# Altium footprint library con-phoenix-762.PCBLIB: 27 footprints (part 2 of 2)
Each footprint in its own frame and in the unit in brackets; x right, y up, seen from the top. Pads: shape width x height; smd on the part's side, far side on the other; paste and mask are expansions set on the pad; w line width, h text height; cw(c..) or ccw(c..) is an arc to the next point about the centre after c.
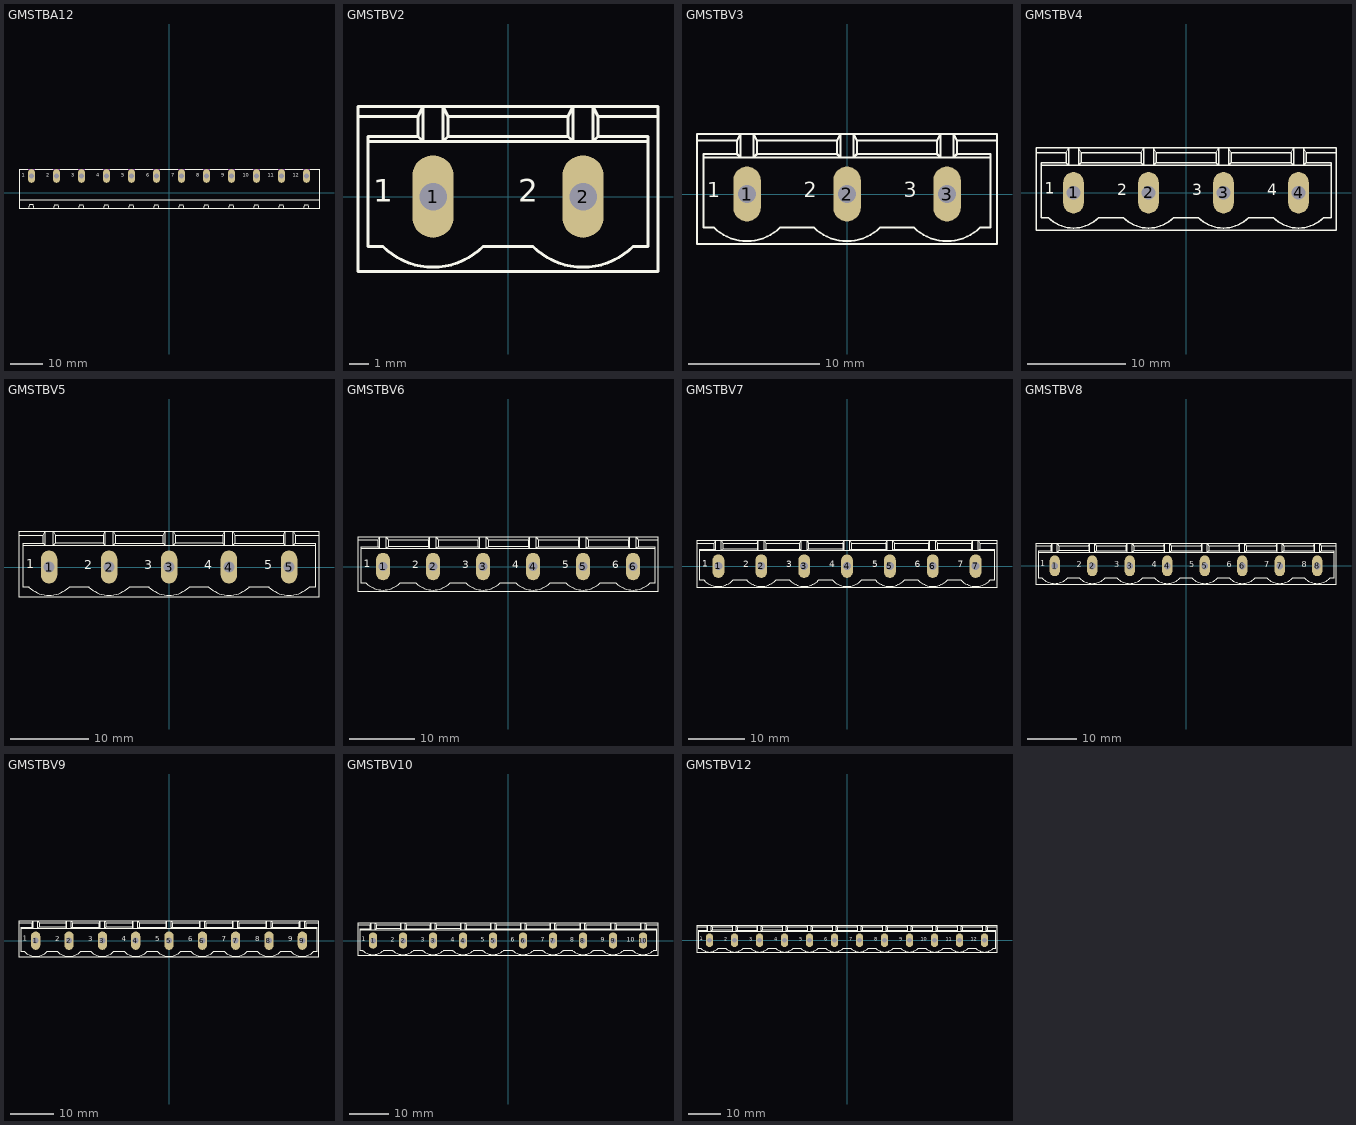
[diagram p1: the footprints below, top view; thin cyan lines are the x and y axes]

## GMSTBA12 [mil]
pads (12):
  oval 82.5x165 hole 55: 1(-1650,200) 2(-1350,200) 3(-1050,200) 4(-750,200) 5(-450,200) 6(-150,200) 7(150,200) 8(450,200) 9(750,200) 10(1050,200) 11(1350,200) 12(1650,200)
Top Overlay:
  lines w6: -1695,280 -1800,280 -1800,-85 ; -1685,-195 -1670,-145 -1630,-145 -1615,-195 ; -1605,280 -1395,280 ; -1385,-195 -1370,-145 -1330,-145 -1315,-195 ; -1305,280 -1095,280 ; -1085,-195 -1070,-145 -1030,-145 -1015,-195 ; -1005,280 -795,280 ; -705,280 -495,280 ; -405,280 -195,280 ; -105,280 105,280 ; 195,280 405,280 ; 495,280 705,280 ; 795,280 1005,280 ; 1095,280 1305,280 ; 1395,280 1605,280 ; 1695,280 1800,280 1800,-85 ; -1800,-85 1800,-85 ; -1800,-85 -1800,-195 -785,-195 ; -785,-195 -715,-195 ; -785,-195 -770,-145 -730,-145 -715,-195 ; -715,-195 -485,-195 ; -485,-195 -415,-195 ; -485,-195 -470,-145 -430,-145 -415,-195 ; -415,-195 -185,-195 ; -185,-195 -115,-195 ; -185,-195 -170,-145 -130,-145 -115,-195 ; -115,-195 115,-195 ; 115,-195 185,-195 ; 115,-195 130,-145 170,-145 185,-195 ; 185,-195 415,-195 ; 415,-195 485,-195 ; 415,-195 430,-145 470,-145 485,-195 ; 485,-195 715,-195 ; 715,-195 785,-195 ; 715,-195 730,-145 770,-145 785,-195 ; 785,-195 1015,-195 ; 1015,-195 1085,-195 ; 1015,-195 1030,-145 1070,-145 1085,-195 ; 1085,-195 1315,-195 ; 1315,-195 1385,-195 ; 1315,-195 1330,-145 1370,-145 1385,-195 ; 1385,-195 1615,-195 ; 1615,-195 1685,-195 ; 1615,-195 1630,-145 1670,-145 1685,-195 ; 1685,-195 1800,-195 1800,-85
  text "1" at -1770,175 h77.5
  text "2" at -1475,175 h77.5
  text "3" at -1175,175 h77.5
  text "4" at -875,175 h77.5
  text "5" at -575,175 h77.5
  text "6" at -275,175 h77.5
  text "7" at 25,175 h77.5
  text "8" at 325,175 h77.5
  text "9" at 625,175 h77.5
  text "10" at 885,175 h77.5
  text "11" at 1185,175 h77.5
  text "12" at 1485,175 h77.5
Mechanical 16:
  lines w6: -1695,280 -1605,280 ; -1395,280 -1305,280 ; -1095,280 -1005,280 ; -795,280 -705,280 ; -495,280 -405,280 ; -195,280 -105,280 ; 105,280 195,280 ; 405,280 495,280 ; 705,280 795,280 ; 1005,280 1095,280 ; 1305,280 1395,280 ; 1605,280 1695,280

## GMSTBV2 [mil]
pads (2):
  oval 82.5x165 hole 55: 1(-150,0) 2(150,0)
Top Overlay:
  lines w6: -300,160 -300,-150 300,-150 300,160 ; -300,160 -300,180 -170,180 ; -300,160 -180,160 ; -280,110 -170,110 ; -280,110 -280,-100 -250,-100 ccw(c-150,0) -50,-100 50,-100 ccw(c150,0) 250,-100 280,-100 280,110 ; -280,110 -280,120 -180,120 ; -180,120 -170,110 ; -180,120 -180,160 ; -180,160 -170,180 ; -170,110 -130,110 ; -170,110 -170,180 ; -170,180 -130,180 ; -130,110 130,110 ; -130,110 -130,180 ; -130,110 -120,120 ; -130,180 130,180 ; -130,180 -120,160 ; -120,120 -120,160 ; -120,120 120,120 ; -120,160 120,160 ; 120,120 120,160 ; 120,120 130,110 ; 120,160 130,180 ; 130,110 170,110 ; 130,110 130,180 ; 130,180 170,180 ; 170,110 280,110 ; 170,110 170,180 ; 170,110 180,120 ; 170,180 300,180 300,160 ; 170,180 180,160 ; 180,120 180,160 ; 180,120 280,120 280,110 ; 180,160 300,160
  text "1" at -270,-25 h77.5
  text "2" at 20,-25 h77.5
Mechanical 16:
  lines w6: -175,-25 -175,25 ; -175,-25 -125,-25 ; -175,-25 -125,25 ; -175,25 -125,25 ; -175,25 -125,-25 ; -125,-25 -125,25 ; 125,-25 125,25 ; 125,-25 175,-25 ; 125,-25 175,25 ; 125,25 175,25 ; 125,25 175,-25 ; 175,-25 175,25

## GMSTBV3 [mil]
pads (3):
  oval 82.5x165 hole 55: 1(-300,0) 2(0,0) 3(300,0)
Top Overlay:
  lines w6: -450,160 -450,-150 450,-150 450,160 ; -450,160 -450,180 -320,180 ; -450,160 -330,160 ; -430,110 -320,110 ; -430,110 -430,-100 -400,-100 ccw(c-300,0) -200,-100 -100,-100 ccw(c0,0) 100,-100 200,-100 ccw(c300,0) 400,-100 430,-100 430,110 ; -430,110 -430,120 -330,120 ; -330,120 -320,110 ; -330,120 -330,160 ; -330,160 -320,180 ; -320,110 -280,110 ; -320,110 -320,180 ; -320,180 -280,180 ; -280,110 -20,110 ; -280,110 -280,180 ; -280,110 -270,120 ; -280,180 -20,180 ; -280,180 -270,160 ; -270,120 -270,160 ; -270,120 -30,120 ; -270,160 -30,160 ; -30,120 -30,160 ; -30,120 -20,110 ; -30,160 -20,180 ; -20,110 20,110 ; -20,110 -20,180 ; -20,180 20,180 ; 20,110 280,110 ; 20,110 20,180 ; 20,110 30,120 ; 20,180 280,180 ; 20,180 30,160 ; 30,120 30,160 ; 30,120 270,120 ; 30,160 270,160 ; 270,120 270,160 ; 270,120 280,110 ; 270,160 280,180 ; 280,110 320,110 ; 280,110 280,180 ; 280,180 320,180 ; 320,110 430,110 ; 320,110 320,180 ; 320,110 330,120 ; 320,180 450,180 450,160 ; 320,180 330,160 ; 330,120 330,160 ; 330,120 430,120 430,110 ; 330,160 450,160
  text "1" at -420,-25 h77.5
  text "2" at -130,-25 h77.5
  text "3" at 170,-25 h77.5
Mechanical 16:
  lines w6: -325,-25 -325,25 ; -325,-25 -275,-25 ; -325,-25 -275,25 ; -325,25 -275,25 ; -325,25 -275,-25 ; -275,-25 -275,25 ; -25,-25 -25,25 ; -25,-25 25,-25 ; -25,-25 25,25 ; -25,25 25,25 ; -25,25 25,-25 ; 25,-25 25,25 ; 275,-25 275,25 ; 275,-25 325,-25 ; 275,-25 325,25 ; 275,25 325,25 ; 275,25 325,-25 ; 325,-25 325,25

## GMSTBV4 [mil]
pads (4):
  oval 82.5x165 hole 55: 1(-450,0) 2(-150,0) 3(150,0) 4(450,0)
Top Overlay:
  lines w6: -600,160 -600,-150 600,-150 600,160 ; -600,160 -600,180 -470,180 ; -600,160 -480,160 ; -580,110 -580,-100 -550,-100 ccw(c-450,0) -350,-100 -250,-100 ccw(c-150,0) -50,-100 50,-100 ccw(c150,0) 250,-100 350,-100 ccw(c450,0) 550,-100 580,-100 580,110 ; -580,110 -580,120 -480,120 ; -580,110 -470,110 ; -480,120 -470,110 ; -480,120 -480,160 ; -480,160 -470,180 ; -470,110 -430,110 ; -470,110 -470,180 ; -470,180 -430,180 ; -430,110 -170,110 ; -430,110 -430,180 ; -430,110 -420,120 ; -430,180 -170,180 ; -430,180 -420,160 ; -420,120 -420,160 ; -420,120 -180,120 ; -420,160 -180,160 ; -180,120 -180,160 ; -180,120 -170,110 ; -180,160 -170,180 ; -170,110 -130,110 ; -170,110 -170,180 ; -170,180 -130,180 ; -130,110 -130,180 ; -130,110 -120,120 ; -130,110 130,110 ; -130,180 -120,160 ; -130,180 130,180 ; -120,120 -120,160 ; -120,120 120,120 ; -120,160 120,160 ; 120,120 130,110 ; 120,120 120,160 ; 120,160 130,180 ; 130,110 170,110 ; 130,110 130,180 ; 130,180 170,180 ; 170,110 430,110 ; 170,110 170,180 ; 170,110 180,120 ; 170,180 430,180 ; 170,180 180,160 ; 180,120 180,160 ; 180,120 420,120 ; 180,160 420,160 ; 420,120 420,160 ; 420,120 430,110 ; 420,160 430,180 ; 430,110 470,110 ; 430,110 430,180 ; 430,180 470,180 ; 470,110 580,110 ; 470,110 470,180 ; 470,110 480,120 ; 470,180 600,180 600,160 ; 470,180 480,160 ; 480,120 480,160 ; 480,120 580,120 580,110 ; 480,160 600,160
  text "1" at -565,-20 h77.5
  text "2" at -275,-25 h77.5
  text "3" at 25,-25 h77.5
  text "4" at 325,-25 h77.5
Mechanical 16:
  lines w6: -475,-25 -475,25 ; -475,-25 -425,-25 ; -475,-25 -425,25 ; -475,25 -425,25 ; -475,25 -425,-25 ; -425,-25 -425,25 ; -175,-25 -175,25 ; -175,-25 -125,-25 ; -175,-25 -125,25 ; -175,25 -125,25 ; -175,25 -125,-25 ; -125,-25 -125,25 ; 125,-25 125,25 ; 125,-25 175,-25 ; 125,-25 175,25 ; 125,25 175,25 ; 125,25 175,-25 ; 175,-25 175,25 ; 425,-25 425,25 ; 425,-25 475,-25 ; 425,-25 475,25 ; 425,25 475,25 ; 425,25 475,-25 ; 475,-25 475,25

## GMSTBV5 [mil]
pads (5):
  oval 82.5x165 hole 55: 1(-600,0) 2(-300,0) 3(0,0) 4(300,0) 5(600,0)
Top Overlay:
  lines w6: -750,160 -750,-150 750,-150 750,160 ; -750,160 -750,180 -620,180 ; -750,160 -630,160 ; -730,110 -730,-100 -700,-100 ccw(c-600,0) -500,-100 -400,-100 ccw(c-300,0) -200,-100 -100,-100 ccw(c0,0) 100,-100 200,-100 ccw(c300,0) 400,-100 500,-100 ccw(c600,0) 700,-100 730,-100 730,110 ; -730,110 -730,120 -630,120 ; -730,110 -620,110 ; -630,120 -620,110 ; -630,120 -630,160 ; -630,160 -620,180 ; -620,110 -580,110 ; -620,110 -620,180 ; -620,180 -580,180 ; -580,110 -320,110 ; -580,110 -580,180 ; -580,110 -570,120 ; -580,180 -320,180 ; -580,180 -570,160 ; -570,120 -570,160 ; -570,120 -330,120 ; -570,160 -330,160 ; -330,120 -330,160 ; -330,120 -320,110 ; -330,160 -320,180 ; -320,110 -280,110 ; -320,110 -320,180 ; -320,180 -280,180 ; -280,110 -280,180 ; -280,110 -270,120 ; -280,110 -20,110 ; -280,180 -270,160 ; -280,180 -20,180 ; -270,120 -270,160 ; -270,120 -30,120 ; -270,160 -30,160 ; -30,120 -20,110 ; -30,120 -30,160 ; -30,160 -20,180 ; -20,110 20,110 ; -20,110 -20,180 ; -20,180 20,180 ; 20,110 280,110 ; 20,110 20,180 ; 20,110 30,120 ; 20,180 280,180 ; 20,180 30,160 ; 30,120 30,160 ; 30,120 270,120 ; 30,160 270,160 ; 270,120 270,160 ; 270,120 280,110 ; 270,160 280,180 ; 280,110 320,110 ; 280,110 280,180 ; 280,180 320,180 ; 320,110 580,110 ; 320,110 320,180 ; 320,110 330,120 ; 320,180 580,180 ; 320,180 330,160 ; 330,120 330,160 ; 330,120 570,120 ; 330,160 570,160 ; 570,120 570,160 ; 570,120 580,110 ; 570,160 580,180 ; 580,110 620,110 ; 580,110 580,180 ; 580,180 620,180 ; 620,110 730,110 ; 620,110 620,180 ; 620,110 630,120 ; 620,180 750,180 750,160 ; 620,180 630,160 ; 630,120 730,120 730,110 ; 630,120 630,160 ; 630,160 750,160
  text "1" at -715,-20 h77.5
  text "2" at -425,-25 h77.5
  text "3" at -125,-25 h77.5
  text "4" at 175,-25 h77.5
  text "5" at 475,-25 h77.5
Mechanical 16:
  lines w6: -625,-25 -625,25 ; -625,-25 -575,-25 ; -625,-25 -575,25 ; -625,25 -575,25 ; -625,25 -575,-25 ; -575,-25 -575,25 ; -325,-25 -325,25 ; -325,-25 -275,-25 ; -325,-25 -275,25 ; -325,25 -275,25 ; -325,25 -275,-25 ; -275,-25 -275,25 ; -25,-25 -25,25 ; -25,-25 25,-25 ; -25,-25 25,25 ; -25,25 25,25 ; -25,25 25,-25 ; 25,-25 25,25 ; 275,-25 275,25 ; 275,-25 325,-25 ; 275,-25 325,25 ; 275,25 325,25 ; 275,25 325,-25 ; 325,-25 325,25 ; 575,-25 625,-25 ; 575,-25 575,25 ; 575,-25 625,25 ; 575,25 625,25 ; 575,25 625,-25 ; 625,-25 625,25

## GMSTBV6 [mil]
pads (6):
  oval 82.5x165 hole 55: 1(-750,0) 2(-450,0) 3(-150,0) 4(150,0) 5(450,0) 6(750,0)
Top Overlay:
  lines w6: -900,160 -900,-150 900,-150 900,160 ; -900,160 -900,180 -770,180 ; -900,160 -780,160 ; -880,110 -880,-100 -850,-100 ccw(c-750,0) -650,-100 -550,-100 ccw(c-450,0) -350,-100 -250,-100 ccw(c-150,0) -50,-100 50,-100 ccw(c150,0) 250,-100 350,-100 ccw(c450,0) 550,-100 650,-100 ccw(c750,0) 850,-100 880,-100 880,110 ; -880,110 -880,120 -780,120 ; -880,110 -770,110 ; -780,120 -770,110 ; -780,120 -780,160 ; -780,160 -770,180 ; -770,110 -730,110 ; -770,110 -770,180 ; -770,180 -730,180 ; -730,110 -470,110 ; -730,110 -730,180 ; -730,110 -720,120 ; -730,180 -470,180 ; -730,180 -720,160 ; -720,120 -720,160 ; -720,120 -480,120 ; -720,160 -480,160 ; -480,120 -480,160 ; -480,120 -470,110 ; -480,160 -470,180 ; -470,110 -430,110 ; -470,110 -470,180 ; -470,180 -430,180 ; -430,110 -430,180 ; -430,110 -420,120 ; -430,110 -170,110 ; -430,180 -420,160 ; -430,180 -170,180 ; -420,120 -420,160 ; -420,120 -180,120 ; -420,160 -180,160 ; -180,120 -170,110 ; -180,120 -180,160 ; -180,160 -170,180 ; -170,110 -130,110 ; -170,110 -170,180 ; -170,180 -130,180 ; -130,110 130,110 ; -130,110 -130,180 ; -130,110 -120,120 ; -130,180 130,180 ; -130,180 -120,160 ; -120,120 -120,160 ; -120,120 120,120 ; -120,160 120,160 ; 120,120 120,160 ; 120,120 130,110 ; 120,160 130,180 ; 130,110 170,110 ; 130,110 130,180 ; 130,180 170,180 ; 170,110 430,110 ; 170,110 170,180 ; 170,110 180,120 ; 170,180 430,180 ; 170,180 180,160 ; 180,120 180,160 ; 180,120 420,120 ; 180,160 420,160 ; 420,120 420,160 ; 420,120 430,110 ; 420,160 430,180 ; 430,110 470,110 ; 430,110 430,180 ; 430,180 470,180 ; 470,110 730,110 ; 470,110 470,180 ; 470,110 480,120 ; 470,180 730,180 ; 470,180 480,160 ; 480,120 720,120 ; 480,120 480,160 ; 480,160 720,160 ; 720,120 720,160 ; 720,120 730,110 ; 720,160 730,180 ; 730,110 770,110 ; 730,110 730,180 ; 730,180 770,180 ; 770,110 880,110 ; 770,110 770,180 ; 770,110 780,120 ; 770,180 900,180 900,160 ; 770,180 780,160 ; 780,120 880,120 880,110 ; 780,120 780,160 ; 780,160 900,160
  text "1" at -865,-20 h77.5
  text "2" at -575,-25 h77.5
  text "3" at -275,-25 h77.5
  text "4" at 25,-25 h77.5
  text "5" at 325,-25 h77.5
  text "6" at 625,-25 h77.5
Mechanical 16:
  lines w6: -775,-25 -775,25 ; -775,-25 -725,-25 ; -775,-25 -725,25 ; -775,25 -725,25 ; -775,25 -725,-25 ; -725,-25 -725,25 ; -475,-25 -475,25 ; -475,-25 -425,-25 ; -475,-25 -425,25 ; -475,25 -425,25 ; -475,25 -425,-25 ; -425,-25 -425,25 ; -175,-25 -175,25 ; -175,-25 -125,-25 ; -175,-25 -125,25 ; -175,25 -125,25 ; -175,25 -125,-25 ; -125,-25 -125,25 ; 125,-25 125,25 ; 125,-25 175,-25 ; 125,-25 175,25 ; 125,25 175,25 ; 125,25 175,-25 ; 175,-25 175,25 ; 425,-25 425,25 ; 425,-25 475,-25 ; 425,-25 475,25 ; 425,25 475,25 ; 425,25 475,-25 ; 475,-25 475,25 ; 725,-25 725,25 ; 725,-25 775,-25 ; 725,-25 775,25 ; 725,25 775,25 ; 725,25 775,-25 ; 775,-25 775,25

## GMSTBV7 [mil]
pads (7):
  oval 82.5x165 hole 55: 1(-900,0) 2(-600,0) 3(-300,0) 4(0,0) 5(300,0) 6(600,0) 7(900,0)
Top Overlay:
  lines w6: -1050,160 -1050,-150 1050,-150 1050,160 ; -1050,160 -1050,180 -920,180 ; -1050,160 -930,160 ; -1030,110 -1030,-100 -1000,-100 ccw(c-900,0) -800,-100 -700,-100 ccw(c-600,0) -500,-100 -400,-100 ccw(c-300,0) -200,-100 -100,-100 ccw(c0,0) 100,-100 200,-100 ccw(c300,0) 400,-100 500,-100 ccw(c600,0) 700,-100 800,-100 ccw(c900,0) 1000,-100 1030,-100 1030,110 ; -1030,110 -1030,120 -930,120 ; -1030,110 -920,110 ; -930,120 -920,110 ; -930,120 -930,160 ; -930,160 -920,180 ; -920,110 -880,110 ; -920,110 -920,180 ; -920,180 -880,180 ; -880,110 -620,110 ; -880,110 -880,180 ; -880,110 -870,120 ; -880,180 -620,180 ; -880,180 -870,160 ; -870,120 -870,160 ; -870,120 -630,120 ; -870,160 -630,160 ; -630,120 -630,160 ; -630,120 -620,110 ; -630,160 -620,180 ; -620,110 -580,110 ; -620,110 -620,180 ; -620,180 -580,180 ; -580,110 -580,180 ; -580,110 -570,120 ; -580,110 -320,110 ; -580,180 -570,160 ; -580,180 -320,180 ; -570,120 -570,160 ; -570,120 -330,120 ; -570,160 -330,160 ; -330,120 -320,110 ; -330,120 -330,160 ; -330,160 -320,180 ; -320,110 -280,110 ; -320,110 -320,180 ; -320,180 -280,180 ; -280,110 -20,110 ; -280,110 -280,180 ; -280,110 -270,120 ; -280,180 -20,180 ; -280,180 -270,160 ; -270,120 -270,160 ; -270,120 -30,120 ; -270,160 -30,160 ; -30,120 -30,160 ; -30,120 -20,110 ; -30,160 -20,180 ; -20,110 20,110 ; -20,110 -20,180 ; -20,180 20,180 ; 20,110 20,180 ; 20,110 30,120 ; 20,110 280,110 ; 20,180 30,160 ; 20,180 280,180 ; 30,120 30,160 ; 30,120 270,120 ; 30,160 270,160 ; 270,120 270,160 ; 270,120 280,110 ; 270,160 280,180 ; 280,110 320,110 ; 280,110 280,180 ; 280,180 320,180 ; 320,110 320,180 ; 320,110 330,120 ; 320,110 580,110 ; 320,180 330,160 ; 320,180 580,180 ; 330,120 570,120 ; 330,120 330,160 ; 330,160 570,160 ; 570,120 570,160 ; 570,120 580,110 ; 570,160 580,180 ; 580,110 620,110 ; 580,110 580,180 ; 580,180 620,180 ; 620,110 620,180 ; 620,110 630,120 ; 620,110 880,110 ; 620,180 630,160 ; 620,180 880,180 ; 630,120 870,120 ; 630,120 630,160 ; 630,160 870,160 ; 870,120 870,160 ; 870,120 880,110 ; 870,160 880,180 ; 880,110 920,110 ; 880,110 880,180 ; 880,180 920,180 ; 920,110 1030,110 ; 920,110 920,180 ; 920,110 930,120 ; 920,180 1050,180 1050,160 ; 920,180 930,160 ; 930,120 1030,120 1030,110 ; 930,120 930,160 ; 930,160 1050,160
  text "1" at -1015,-20 h77.5
  text "2" at -725,-25 h77.5
  text "3" at -425,-25 h77.5
  text "4" at -125,-25 h77.5
  text "5" at 175,-25 h77.5
  text "6" at 475,-25 h77.5
  text "7" at 775,-25 h77.5
Mechanical 16:
  lines w6: -925,-25 -925,25 ; -925,-25 -875,-25 ; -925,-25 -875,25 ; -925,25 -875,25 ; -925,25 -875,-25 ; -875,-25 -875,25 ; -625,-25 -625,25 ; -625,-25 -575,-25 ; -625,-25 -575,25 ; -625,25 -575,25 ; -625,25 -575,-25 ; -575,-25 -575,25 ; -325,-25 -325,25 ; -325,-25 -275,-25 ; -325,-25 -275,25 ; -325,25 -275,25 ; -325,25 -275,-25 ; -275,-25 -275,25 ; -25,-25 -25,25 ; -25,-25 25,-25 ; -25,-25 25,25 ; -25,25 25,25 ; -25,25 25,-25 ; 25,-25 25,25 ; 275,-25 275,25 ; 275,-25 325,-25 ; 275,-25 325,25 ; 275,25 325,25 ; 275,25 325,-25 ; 325,-25 325,25 ; 575,-25 575,25 ; 575,-25 625,-25 ; 575,-25 625,25 ; 575,25 625,25 ; 575,25 625,-25 ; 625,-25 625,25 ; 875,-25 875,25 ; 875,-25 925,-25 ; 875,-25 925,25 ; 875,25 925,25 ; 875,25 925,-25 ; 925,-25 925,25

## GMSTBV8 [mil]
pads (8):
  oval 82.5x165 hole 55: 1(-1050,0) 2(-750,0) 3(-450,0) 4(-150,0) 5(150,0) 6(450,0) 7(750,0) 8(1050,0)
Top Overlay:
  lines w6: -1200,160 -1200,-150 1200,-150 1200,160 ; -1200,160 -1200,180 -1070,180 ; -1200,160 -1080,160 ; -1180,110 -1180,-100 -1150,-100 ccw(c-1050,0) -950,-100 -850,-100 ccw(c-750,0) -650,-100 -550,-100 ccw(c-450,0) -350,-100 -250,-100 ccw(c-150,0) -50,-100 50,-100 ccw(c150,0) 250,-100 350,-100 ccw(c450,0) 550,-100 650,-100 ccw(c750,0) 850,-100 950,-100 ccw(c1050,0) 1150,-100 1180,-100 1180,110 ; -1180,110 -1180,120 -1080,120 ; -1180,110 -1070,110 ; -1080,120 -1070,110 ; -1080,120 -1080,160 ; -1080,160 -1070,180 ; -1070,110 -1030,110 ; -1070,110 -1070,180 ; -1070,180 -1030,180 ; -1030,110 -770,110 ; -1030,110 -1030,180 ; -1030,110 -1020,120 ; -1030,180 -770,180 ; -1030,180 -1020,160 ; -1020,120 -1020,160 ; -1020,120 -780,120 ; -1020,160 -780,160 ; -780,120 -780,160 ; -780,120 -770,110 ; -780,160 -770,180 ; -770,110 -730,110 ; -770,110 -770,180 ; -770,180 -730,180 ; -730,110 -730,180 ; -730,110 -720,120 ; -730,110 -470,110 ; -730,180 -720,160 ; -730,180 -470,180 ; -720,120 -720,160 ; -720,120 -480,120 ; -720,160 -480,160 ; -480,120 -470,110 ; -480,120 -480,160 ; -480,160 -470,180 ; -470,110 -430,110 ; -470,110 -470,180 ; -470,180 -430,180 ; -430,110 -170,110 ; -430,110 -430,180 ; -430,110 -420,120 ; -430,180 -170,180 ; -430,180 -420,160 ; -420,120 -420,160 ; -420,120 -180,120 ; -420,160 -180,160 ; -180,120 -180,160 ; -180,120 -170,110 ; -180,160 -170,180 ; -170,110 -130,110 ; -170,110 -170,180 ; -170,180 -130,180 ; -130,110 -130,180 ; -130,110 -120,120 ; -130,110 130,110 ; -130,180 -120,160 ; -130,180 130,180 ; -120,120 -120,160 ; -120,120 120,120 ; -120,160 120,160 ; 120,120 120,160 ; 120,120 130,110 ; 120,160 130,180 ; 130,110 170,110 ; 130,110 130,180 ; 130,180 170,180 ; 170,110 170,180 ; 170,110 180,120 ; 170,110 430,110 ; 170,180 180,160 ; 170,180 430,180 ; 180,120 420,120 ; 180,120 180,160 ; 180,160 420,160 ; 420,120 420,160 ; 420,120 430,110 ; 420,160 430,180 ; 430,110 470,110 ; 430,110 430,180 ; 430,180 470,180 ; 470,110 470,180 ; 470,110 480,120 ; 470,110 730,110 ; 470,180 480,160 ; 470,180 730,180 ; 480,120 720,120 ; 480,120 480,160 ; 480,160 720,160 ; 720,120 720,160 ; 720,120 730,110 ; 720,160 730,180 ; 730,110 770,110 ; 730,110 730,180 ; 730,180 770,180 ; 770,110 1030,110 ; 770,110 770,180 ; 770,110 780,120 ; 770,180 1030,180 ; 770,180 780,160 ; 780,120 1020,120 ; 780,120 780,160 ; 780,160 1020,160 ; 1020,120 1020,160 ; 1020,120 1030,110 ; 1020,160 1030,180 ; 1030,110 1070,110 ; 1030,110 1030,180 ; 1030,180 1070,180 ; 1070,110 1180,110 ; 1070,110 1070,180 ; 1070,110 1080,120 ; 1070,180 1200,180 1200,160 ; 1070,180 1080,160 ; 1080,120 1180,120 1180,110 ; 1080,120 1080,160 ; 1080,160 1200,160
  text "1" at -1165,-20 h77.5
  text "2" at -875,-25 h77.5
  text "3" at -575,-25 h77.5
  text "4" at -275,-25 h77.5
  text "5" at 25,-25 h77.5
  text "6" at 325,-25 h77.5
  text "7" at 625,-25 h77.5
  text "8" at 925,-25 h77.5
Mechanical 16:
  lines w6: -1075,-25 -1075,25 ; -1075,-25 -1025,-25 ; -1075,-25 -1025,25 ; -1075,25 -1025,25 ; -1075,25 -1025,-25 ; -1025,-25 -1025,25 ; -775,-25 -775,25 ; -775,-25 -725,-25 ; -775,-25 -725,25 ; -775,25 -725,25 ; -775,25 -725,-25 ; -725,-25 -725,25 ; -475,-25 -475,25 ; -475,-25 -425,-25 ; -475,-25 -425,25 ; -475,25 -425,25 ; -475,25 -425,-25 ; -425,-25 -425,25 ; -175,-25 -175,25 ; -175,-25 -125,-25 ; -175,-25 -125,25 ; -175,25 -125,25 ; -175,25 -125,-25 ; -125,-25 -125,25 ; 125,-25 125,25 ; 125,-25 175,-25 ; 125,-25 175,25 ; 125,25 175,25 ; 125,25 175,-25 ; 175,-25 175,25 ; 425,-25 425,25 ; 425,-25 475,-25 ; 425,-25 475,25 ; 425,25 475,25 ; 425,25 475,-25 ; 475,-25 475,25 ; 725,-25 725,25 ; 725,-25 775,-25 ; 725,-25 775,25 ; 725,25 775,25 ; 725,25 775,-25 ; 775,-25 775,25 ; 1025,-25 1075,-25 ; 1025,-25 1025,25 ; 1025,-25 1075,25 ; 1025,25 1075,25 ; 1025,25 1075,-25 ; 1075,-25 1075,25

## GMSTBV9 [mil]
pads (9):
  oval 82.5x165 hole 55: 1(-1200,0) 2(-900,0) 3(-600,0) 4(-300,0) 5(0,0) 6(300,0) 7(600,0) 8(900,0) 9(1200,0)
Top Overlay:
  drawing of 158 lines, arcs and shapes, not listed
  text "1" at -1315,-20 h77.5
  text "2" at -1025,-25 h77.5
  text "3" at -725,-25 h77.5
  text "4" at -425,-25 h77.5
  text "5" at -125,-25 h77.5
  text "6" at 175,-25 h77.5
  text "7" at 475,-25 h77.5
  text "8" at 775,-25 h77.5
  text "9" at 1075,-25 h77.5
Mechanical 16:
  lines w6: -1225,-25 -1225,25 ; -1225,-25 -1175,-25 ; -1225,-25 -1175,25 ; -1225,25 -1175,25 ; -1225,25 -1175,-25 ; -1175,-25 -1175,25 ; -925,-25 -925,25 ; -925,-25 -875,-25 ; -925,-25 -875,25 ; -925,25 -875,25 ; -925,25 -875,-25 ; -875,-25 -875,25 ; -625,-25 -625,25 ; -625,-25 -575,-25 ; -625,-25 -575,25 ; -625,25 -575,25 ; -625,25 -575,-25 ; -575,-25 -575,25 ; -325,-25 -325,25 ; -325,-25 -275,-25 ; -325,-25 -275,25 ; -325,25 -275,25 ; -325,25 -275,-25 ; -275,-25 -275,25 ; -25,-25 -25,25 ; -25,-25 25,-25 ; -25,-25 25,25 ; -25,25 25,25 ; -25,25 25,-25 ; 25,-25 25,25 ; 275,-25 275,25 ; 275,-25 325,-25 ; 275,-25 325,25 ; 275,25 325,25 ; 275,25 325,-25 ; 325,-25 325,25 ; 575,-25 575,25 ; 575,-25 625,-25 ; 575,-25 625,25 ; 575,25 625,25 ; 575,25 625,-25 ; 625,-25 625,25 ; 875,-25 875,25 ; 875,-25 925,25 ; 875,-25 925,-25 ; 875,25 925,25 ; 875,25 925,-25 ; 925,-25 925,25 ; 1175,-25 1225,-25 ; 1175,-25 1175,25 ; 1175,-25 1225,25 ; 1175,25 1225,25 ; 1175,25 1225,-25 ; 1225,-25 1225,25

## GMSTBV10 [mil]
pads (10):
  oval 82.5x165 hole 55: 1(-1350,0) 2(-1050,0) 3(-750,0) 4(-450,0) 5(-150,0) 6(150,0) 7(450,0) 8(750,0) 9(1050,0) 10(1350,0)
Top Overlay:
  drawing of 174 lines, arcs and shapes, not listed
  text "1" at -1465,-20 h77.5
  text "2" at -1175,-25 h77.5
  text "3" at -875,-25 h77.5
  text "4" at -575,-25 h77.5
  text "5" at -275,-25 h77.5
  text "6" at 25,-25 h77.5
  text "7" at 325,-25 h77.5
  text "8" at 625,-25 h77.5
  text "9" at 925,-25 h77.5
  text "10" at 1185,-25 h77.5
Mechanical 16:
  lines w6: -1375,-25 -1375,25 ; -1375,-25 -1325,-25 ; -1375,-25 -1325,25 ; -1375,25 -1325,25 ; -1375,25 -1325,-25 ; -1325,-25 -1325,25 ; -1075,-25 -1075,25 ; -1075,-25 -1025,-25 ; -1075,-25 -1025,25 ; -1075,25 -1025,25 ; -1075,25 -1025,-25 ; -1025,-25 -1025,25 ; -775,-25 -775,25 ; -775,-25 -725,-25 ; -775,-25 -725,25 ; -775,25 -725,25 ; -775,25 -725,-25 ; -725,-25 -725,25 ; -475,-25 -475,25 ; -475,-25 -425,-25 ; -475,-25 -425,25 ; -475,25 -425,25 ; -475,25 -425,-25 ; -425,-25 -425,25 ; -175,-25 -175,25 ; -175,-25 -125,-25 ; -175,-25 -125,25 ; -175,25 -125,25 ; -175,25 -125,-25 ; -125,-25 -125,25 ; 125,-25 125,25 ; 125,-25 175,-25 ; 125,-25 175,25 ; 125,25 175,25 ; 125,25 175,-25 ; 175,-25 175,25 ; 425,-25 425,25 ; 425,-25 475,-25 ; 425,-25 475,25 ; 425,25 475,25 ; 425,25 475,-25 ; 475,-25 475,25 ; 725,-25 725,25 ; 725,-25 775,25 ; 725,-25 775,-25 ; 725,25 775,25 ; 725,25 775,-25 ; 775,-25 775,25 ; 1025,-25 1075,-25 ; 1025,-25 1025,25 ; 1025,-25 1075,25 ; 1025,25 1075,25 ; 1025,25 1075,-25 ; 1075,-25 1075,25 ; 1325,-25 1375,-25 ; 1325,-25 1325,25 ; 1325,-25 1375,25 ; 1325,25 1375,25 ; 1325,25 1375,-25 ; 1375,-25 1375,25

## GMSTBV12 [mil]
pads (12):
  oval 82.5x165 hole 55: 1(-1650,0) 2(-1350,0) 3(-1050,0) 4(-750,0) 5(-450,0) 6(-150,0) 7(150,0) 8(450,0) 9(750,0) 10(1050,0) 11(1350,0) 12(1650,0)
Top Overlay:
  drawing of 206 lines, arcs and shapes, not listed
  text "1" at -1765,-20 h77.5
  text "2" at -1475,-25 h77.5
  text "3" at -1175,-25 h77.5
  text "4" at -875,-25 h77.5
  text "5" at -575,-25 h77.5
  text "6" at -275,-25 h77.5
  text "7" at 25,-25 h77.5
  text "8" at 325,-25 h77.5
  text "9" at 625,-25 h77.5
  text "10" at 885,-25 h77.5
  text "11" at 1185,-25 h77.5
  text "12" at 1485,-25 h77.5
Mechanical 16:
  lines w6: -1675,-25 -1675,25 ; -1675,-25 -1625,-25 ; -1675,-25 -1625,25 ; -1675,25 -1625,25 ; -1675,25 -1625,-25 ; -1625,-25 -1625,25 ; -1375,-25 -1375,25 ; -1375,-25 -1325,-25 ; -1375,-25 -1325,25 ; -1375,25 -1325,25 ; -1375,25 -1325,-25 ; -1325,-25 -1325,25 ; -1075,-25 -1075,25 ; -1075,-25 -1025,-25 ; -1075,-25 -1025,25 ; -1075,25 -1025,25 ; -1075,25 -1025,-25 ; -1025,-25 -1025,25 ; -775,-25 -775,25 ; -775,-25 -725,-25 ; -775,-25 -725,25 ; -775,25 -725,25 ; -775,25 -725,-25 ; -725,-25 -725,25 ; -475,-25 -475,25 ; -475,-25 -425,-25 ; -475,-25 -425,25 ; -475,25 -425,25 ; -475,25 -425,-25 ; -425,-25 -425,25 ; -175,-25 -175,25 ; -175,-25 -125,-25 ; -175,-25 -125,25 ; -175,25 -125,25 ; -175,25 -125,-25 ; -125,-25 -125,25 ; 125,-25 125,25 ; 125,-25 175,-25 ; 125,-25 175,25 ; 125,25 175,25 ; 125,25 175,-25 ; 175,-25 175,25 ; 425,-25 425,25 ; 425,-25 475,25 ; 425,-25 475,-25 ; 425,25 475,25 ; 425,25 475,-25 ; 475,-25 475,25 ; 725,-25 775,-25 ; 725,-25 725,25 ; 725,-25 775,25 ; 725,25 775,25 ; 725,25 775,-25 ; 775,-25 775,25 ; 1025,-25 1075,-25 ; 1025,-25 1025,25 ; 1025,-25 1075,25 ; 1025,25 1075,25 ; 1025,25 1075,-25 ; 1075,-25 1075,25 ; 1325,-25 1325,25 ; 1325,-25 1375,-25 ; 1325,-25 1375,25 ; 1325,25 1375,25 ; 1325,25 1375,-25 ; 1375,-25 1375,25 ; 1625,-25 1625,25 ; 1625,-25 1675,-25 ; 1625,-25 1675,25 ; 1625,25 1675,25 ; 1625,25 1675,-25 ; 1675,-25 1675,25